# Altium footprint library TCXO_Murata_XTCLH50M000CHJA3P0_50MHz.PcbLib: 1 footprints
Each footprint in its own frame and in the unit in brackets; x right, y up, seen from the top. Pads: shape width x height; smd on the part's side, far side on the other; paste and mask are expansions set on the pad; w line width, h text height; cw(c..) or ccw(c..) is an arc to the next point about the centre after c.
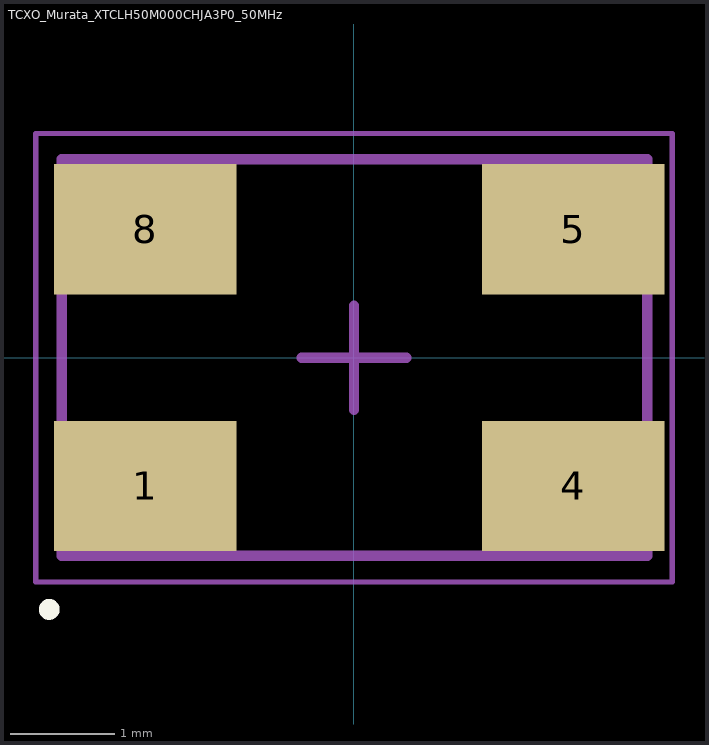
[diagram p0: the footprint, top view; thin cyan lines are the x and y axes]

## TCXO_Murata_XTCLH50M000CHJA3P0_50MHz [mm] "TCXO Oscillators 50MHz 5x3.2x1.5mm 0.28ppm max Crystal"
height 0.45
pads (4):
  rect 1.75x1.25 smd: 1(-2,-1.23) 4(2.1,-1.23) 5(2.1,1.23) 8(-2,1.23)
Top Overlay:
  circle w0.1: c-2.921,-2.413 r0.05
Mechanical 13:
  lines w0.1: -2.8,-1.9 -2.8,1.9 2.81,1.9 2.81,-1.9 -2.8,-1.9
Mechanical 15:
  lines w0.05: -3.05,-2.15 -3.05,2.15 3.05,2.15 3.05,-2.15 -3.05,-2.15
  lines w0.1: -0.5,0 0.5,0 ; 0,-0.5 0,0.5
3D body: height 0.45, standoff 0, extent -2.75,-1.9 2.85,1.9